# Altium footprint library Near-E-Field-Probe - Mi-tai logo.PcbLib: 1 footprints
Each footprint in its own frame and in the unit in brackets; x right, y up, seen from the top. Pads: shape width x height; smd on the part's side, far side on the other; paste and mask are expansions set on the pad; w line width, h text height; cw(c..) or ccw(c..) is an arc to the next point about the centre after c.
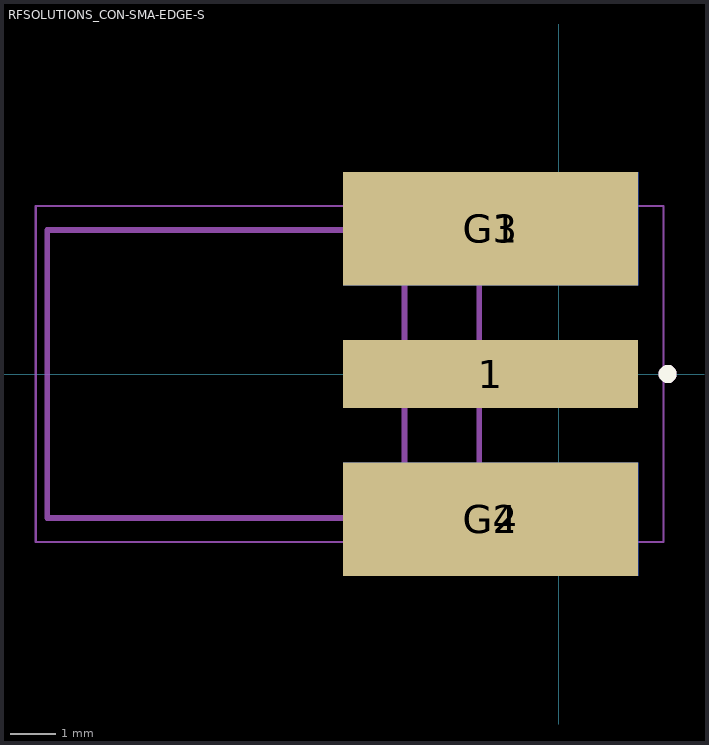
[diagram p0: the footprint, top view; thin cyan lines are the x and y axes]

## RFSOLUTIONS_CON-SMA-EDGE-S [mm]
pads (5):
  rect 6.5x1.5 smd: 1(-1.5,0)
  rect 6.5x2.5 smd: G1(-1.5,3.2) G2(-1.5,-3.2)
  rect 6.5x2.5 smd far side: G3(-1.5,3.2) G4(-1.5,-3.2)
Top Overlay:
  circle w0.2: c2.4,0 r0.1
Mechanical 13:
  circle w0.2: c2.4,0 r0.1
  lines w0.127: -3.4,-3.175 -1.75,-3.175 -1.75,3.175 -3.4,3.175 ; -3.4,-3.175 -3.4,3.175 ; -3.4,-3.175 -11.27,-3.175 -11.27,3.175 -3.4,3.175
Mechanical 14:
  lines w0.127: -3.4,-3.175 -3.4,3.175 ; -3.4,-3.175 -1.75,-3.175 -1.75,3.175 -3.4,3.175 ; -3.4,-3.175 -11.27,-3.175 -11.27,3.175 -3.4,3.175
Mechanical 15:
  lines w0.05: -11.52,-3.7 2.31,-3.7 2.31,3.7 -11.52,3.7 -11.52,-3.7
Mechanical 16:
  lines w0.05: -11.52,-3.7 2.31,-3.7 2.31,3.7 -11.52,3.7 -11.52,-3.7
3D body "step_temp.STEP": height 3.55, standoff -2.8, extent -11.27,-3.175 2.06,3.175